# EAGLE library part SMD-BLUE-MALE-HEADER-R/A(8P-2.54) (library Seeed-OPL-Connector)
320020023
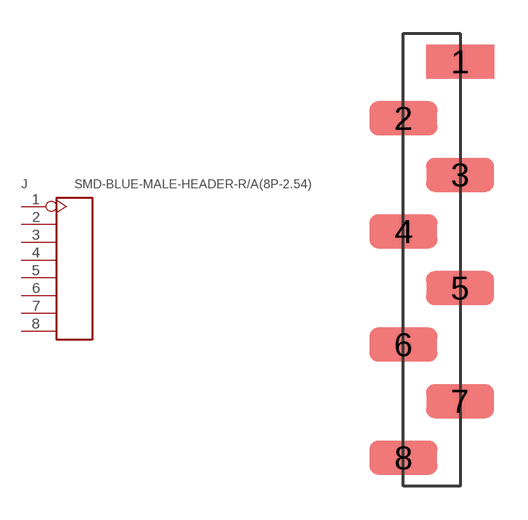
[diagram p12: symbol with the pads of H8-SMD-2.54; footprint H8-SMD-2.54]

Designator prefix J

## SMD-BLUE-MALE-HEADER-R/A(8P-2.54) (MPN: P125-1108B0BA2)  [H8-SMD-2.54]
1  1
2  2
3  3
4  4
5  5
6  6
7  7
8  8

## Footprint H8-SMD-2.54 (pad centres in mm)
smd 3.048 x 1.524: 1 1.27,8.89; 2 -1.27,6.35; 3 1.27,3.81; 4 -1.27,1.27; 5 1.27,-1.27; 6 -1.27,-3.81; 7 1.27,-6.35; 8 -1.27,-8.89